# Altium schematic symbol library BulbCommander.SchLib: 28 symbols
Pins are listed as number, name and electrical type; pins without a type are passive.

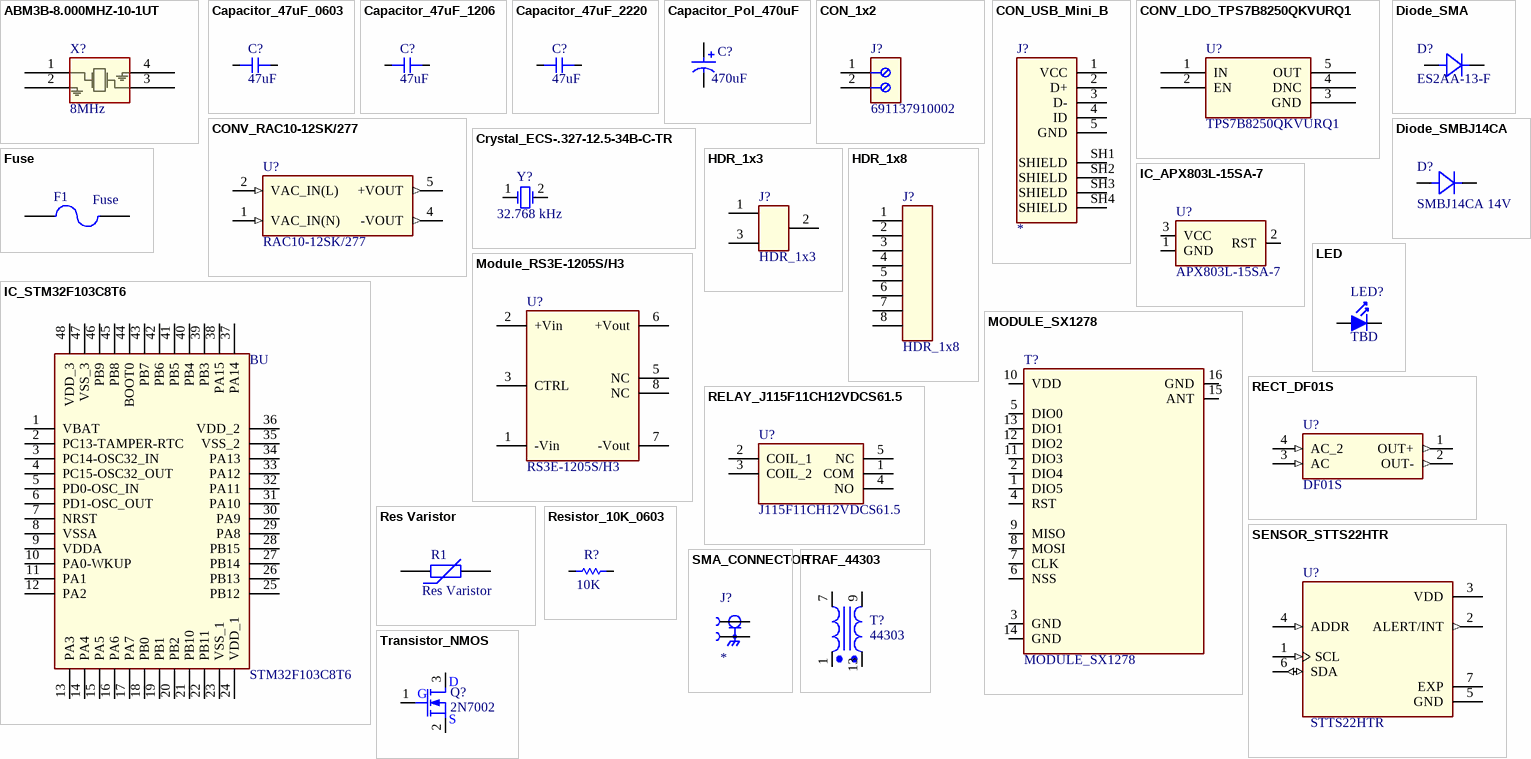
[diagram p0: symbols ABM3B-8.000MHZ-10-1UT to Transistor_NMOS]

## ABM3B-8.000MHZ-10-1UT
designator X?, comment 8MHz
8 MHz Crystal; MFR: Abracon; MFR PN: ABM3B-8.000MHZ-10-1-U-T; Datasheet: https://www.digikey.ro/en/products/detail/abracon-llc/ABM3B-8-000MHZ-10-1-U-T/1873167; Supplier: Digi-Key; Supplier PN: 535-9721-1-ND
footprint XTAL4P_ABM3B_ABR
pins: 1, 2, 3, 4

## Capacitor_47uF_0603
designator C?, comment 47uF
CAP CER 47uF 20% 35V X7R 2220; MFR: TBD; MFR PN: TBD; Supplier: TBD; Supplier PN: TBD; Datasheet: TBD
footprint CASE0603
pins: 1, 2

## Capacitor_47uF_1206
designator C?, comment 47uF
CAP CER 47uF 20% 35V X7R 2220; MFR: TBD; MFR PN: TBD; Supplier: TBD; Supplier PN: TBD; Datasheet: TBD
footprint 1206 (Chip Capacitor, 2-Leads, Body 3.2x1.6mm, IPC Medium Density)
pins: 1, 2

## Capacitor_47uF_2220
designator C?, comment 47uF
CAP CER 47uF 20% 35V X7R 2220; MFR: TBD; MFR PN: TBD; Supplier: TBD; Supplier PN: TBD; Datasheet: TBD
footprint 2220 (Chip Capacitor, 2-Leads, Body 5.7x5.0mm, IPC Medium Density)
pins: 1, 2

## Capacitor_Pol_470uF
designator C?, comment value 470uF  (hidden comment: Cap Pol1)
Capacitor_Pol_470uF; Published: 8-Jun-2000; LatestRevisionDate: 17-Jul-2002; LatestRevisionNote: Re-released for DXP Platform.; PackageReference: RB7.6-15; Publisher: Altium Limited; PackageDescription: Polarized Capacitor (Radial); 2 Leads
footprint WCAP-ASLL_D16H17 (Aluminium Electrolytic V-Chip SMT Capacitors, 16x17mm)
pins: 1, 2
1 alternate drawing of the same symbol

## CON_1x2
designator J?, comment 691137910002
TERM BLOCK 2P HORIZON 7.5MM PCB; MFR: Wurth; MFR PN: 691101710002; Datasheet: https://www.digikey.ro/en/products/detail/w%C3%BCrth-elektronik/691101710002/2060522?s=N4IgTCBcDaIGwE4CMSAMSDsbWogXQF8g; Supplier PN: 732-2026-ND; Supplier: Digi Key
footprint 691137910002 (Horizontal Cable Entry with Pressure Clamp, pitch 7.5mm, 02p)
pins: 1, 2

## CON_USB_Mini_B
designator J?
USB B mini; MFR: Same Sky; MFR PN: 102-5892-1-ND; Datasheet: https://www.digikey.ro/en/products/detail/same-sky-formerly-cui-devices/UJ2-MBH-4-SMT-TR/6188086; Supplier: DigiKey; Supplier PN: 102-5892-1-ND
footprint CUI_UJ2-MBH-4-SMT
pins: 1 VCC, 2 D+, 3 D-, 4 ID, 5 GND, SH1 SHIELD, SH2 SHIELD, SH3 SHIELD, SH4 SHIELD

## CONV_LDO_TPS7B8250QKVURQ1
designator U?, comment TPS7B8250QKVURQ1
MFR: Texas Instruments; MFR PN: TPS7B8250QKVURQ1; Supplier PN: 296-TPS7B8250QKVURQ1CT-ND; Supplier: DigiKey; Datasheet: https://www.digikey.ro/en/products/detail/texas-instruments/TPS7B8250QKVURQ1/12352207?s=N4IgTCBcDaICoAUDKB2AQgDjAVgAwEUBpANQFUAlfARhAF0BfIA
footprint SOT_QKVURQ1_TEX
pins: 1 IN, 2 EN, 3 GND (power), 4 DNC, 5 OUT

## CONV_RAC10-12SK/277
designator U?, comment RAC10-12SK/277
AC/DC CONVERTER 12V 10W; MFR: RECOM; Datasheet: https://recom-power.com/pdf/Powerline_AC-DC/RAC10-K_277.pdf; MFR PN: RAC10-12SK/277; Supplier: Digi Key; Supplier PN: 945-3122-5-ND
footprint CONV_RAC10-12SK/277
pins: 1 VAC_IN(N) (in), 2 VAC_IN(L) (in), 4 -VOUT (out), 5 +VOUT (out)

## Crystal_ECS-.327-12.5-34B-C-TR
designator Y?, comment 32.768 kHz
32.768 kHz ±10ppm Crystal 12.5pF 70 kOhms 2-SMD, No Lead; MFR PN: ECS-.327-12.5-34B-C-TR; MFR: ECS; Datasheet: https://www.digikey.ro/en/products/detail/ecs-inc/ECS-327-12-5-34B-C-TR/3927328; Supplier PN: XC1968CT-ND; Supplier: Digi Key
footprint XTAL_ECS-.327-12.5-34B-C-TR
pins: 1 OSC1, 2 OSC2

## Diode_SMA
designator D?, comment ES2AA-13-F
DIODE STANDARD 50V 2A SMA; MFR: Diodes Incoprated; MFR PN: ES2AA-13-F; SUpplier: DigiKey; Supplier PN: ES2AA-FDICT-ND; Datasheet: https://www.digikey.ro/en/products/detail/diodes-incorporated/ES2AA-13-F/765452?curr=usd&utm_campaign=buynow&utm_medium=aggregator&utm_source=octopart
footprint SMA_DIODE
pins: 1, 2

## Diode_SMBJ14CA
designator D?, comment SMBJ14CA 14V
SMBJ14CA TVS DIODE 14V; Mfr_Name: Littelfuse Inc
footprint SMBJSeries_LTF-M
pins: 1, 2

## Fuse
designator F1
Published: 8-Jun-2000; LatestRevisionDate: 17-Jul-2002; LatestRevisionNote: Re-released for DXP Platform.; PackageReference: PIN-W2/E2.8; Publisher: Altium Limited; PackageDescription: Thru-Hole; 2 Leads
footprint FUSE (Thru-Hole; 2 Leads)
pins: 1, 2

## HDR_1x3
designator J?
HDR MALE 3 x 2.54MM PCB; MFR: Wurth; MFR PN: 691210910002; Datasheet: https://www.digikey.ro/en/products/detail/w%C3%BCrth-elektronik/691210910002/10668428?s=N4IgTCBcDaIGwE4CMYkAZlqxAugXyA; Supplier PN: 732-691210910002-ND; Supplier: Digi Key
footprint Header_1x3_2.54_Male
pins: 1, 2, 3

## HDR_1x8
designator J?
HDR MALE 2.54MM PCB; MFR: Wurth; MFR PN: 691210910002; Datasheet: https://www.digikey.ro/en/products/detail/w%C3%BCrth-elektronik/691210910002/10668428?s=N4IgTCBcDaIGwE4CMYkAZlqxAugXyA; Supplier PN: 732-691210910002-ND; Supplier: Digi Key
footprint Header_1x8_2.54_Male
pins: 1, 2, 3, 4, 5, 6, 7, 8

## IC_APX803L-15SA-7
designator U?, comment APX803L-15SA-7
Supervisor Open Drain or Open Collector 1 Channel SOT-23-3; MFR: Diodes Incorporated; Datasheet: https://www.aliexpress.com/item/1005001894642323.html; MFR PN: APX803L-15SA-7; Supplier: Digi key; Supplier PN: 31-APX803L-15SA-7CT-ND
footprint SOT23-3
pins: 1 GND, 2 RST, 3 VCC

## IC_STM32F103C8T6
designator BU, comment STM32F103C8T6
IC MCU 32BIT 64KB FLASH 48LQFP; MFR: STMicroelectronics; Datasheet: https://www.st.com/resource/en/datasheet/stm32f103cb.pdf; MFR PN: STM32F103C8T6; Supplier: Digi Key; Supplier PN: 497-6063-ND
footprint QFP50P900X900X160-48N
pins: 1 VBAT, 2 PC13-TAMPER-RTC, 3 PC14-OSC32_IN, 4 PC15-OSC32_OUT, 5 PD0-OSC_IN, 6 PD1-OSC_OUT, 7 NRST, 8 VSSA, 9 VDDA, 10 PA0-WKUP, 11 PA1, 12 PA2, 13 PA3, 14 PA4, 15 PA5, 16 PA6, 17 PA7, 18 PB0, 19 PB1, 20 PB2, 21 PB10, 22 PB11, 23 VSS_1, 24 VDD_1, 25 PB12, 26 PB13, 27 PB14, 28 PB15, 29 PA8, 30 PA9, 31 PA10, 32 PA11, 33 PA12, 34 PA13, 35 VSS_2, 36 VDD_2, 37 PA14, 38 PA15, 39 PB3, 40 PB4, 41 PB5, 42 PB6, 43 PB7, 44 BOOT0, 45 PB8, 46 PB9, 47 VSS_3, 48 VDD_3

## LED
designator LED?, comment TBD
Typical INFRARED GaAs LED
footprint CASE0603
pins: 1 A, 2 K

## Module_RS3E-1205S/H3
designator U?, comment RS3E-1205S/H3
DC DC CONVERTER 9-18V IN 5V OUT 600mA 3W; MFR: Recom Power; MFR PN: RS3E-1205S/H3; Supplier: DigiKey; Supplier PN: 945-RS3E-1205S/H3-ND; Datasheet: https://www.digikey.ro/en/products/detail/recom-power/RS3E-1205S-H3/14308292?s=N4IgTCBcDaIEoGUDMBRAtARjABgKwIHoAJJEAXQF8g
footprint CONV_RAC10-12SK/277
pins: 1 -Vin, 2 +Vin, 3 CTRL, 5 NC, 6 +Vout, 7 -Vout, 8 NC

## MODULE_SX1278
designator T?
MODULE_SX1278 LORA 433 MHz; Datasheet: https://www.aliexpress.com/item/1005001894642323.html; MFR: LORA; MFR PN: LORA; Supplier: LORA; Supplier PN: LORA
footprint LORA SX1278
pins: 1 DIO5, 2 DIO4, 3 GND, 4 RST, 5 DIO0, 6 NSS, 7 CLK, 8 MOSI, 9 MISO, 10 VDD, 11 DIO3, 12 DIO2, 13 DIO1, 14 GND, 15 ANT, 16 GND

## RECT_DF01S
designator U?, comment DF01S
BRIDGE RECT 1P 100V 1.5A 4-SDIP; MFR: onsemi; Datasheet: https://www.onsemi.com/download/data-sheet/pdf/df10s-d.pdf; MFR PN: DF01S; Supplier: Digi Key; Supplier PN: DF01SCT-ND
footprint SOT508P985X260-4N
pins: 1 OUT+ (out), 2 OUT- (out), 3 AC (in), 4 AC_2 (in)

## RELAY_J115F11CH12VDCS61.5
designator U?, comment J115F11CH12VDCS61.5
RELAY GEN PURPOSE SPDT 50A 12V; MFR: CIT Relay and Switch; Datasheet: https://www.citrelay.com/Catalog%20Pages/RelayCatalog/J115F%2050amp.pdf; MFR PN: J115F11CH12VDCS61.5; Supplier: Digi Key; Supplier PN: J115F11CH12VDCS61.2449-J115F11CH12VDCS61.5-ND5U
footprint J115F11CH12VDCS615U
pins: 1 COM, 2 COIL_1, 3 COIL_2, 4 NO, 5 NC

## Res Varistor
designator R1
Varistor (Voltage-Sensitive Resistor); Published: 24-Mar-1999; LatestRevisionDate: 29-May-2009; LatestRevisionNote: IPC-7351 Footprint Added.; PackageVersion: Mar-2003; PackageReference: 6-0805; Publisher: Altium Limited; PackageDescription: Chip Resistor 0805 Case Size; Code_IPC: RESC2012
footprint AXIAL-0.3 (Axial Device, Thru-Hole; 2 Leads; 0.3 in Pin Spacing)
pins: 1, 2

## Resistor_10K_0603
designator R?, comment 10K
RES 10K 1% 1/10W 0603; MFR: YAGEO; MFR PN: RC0603FR-0710KL; Supplier: Mouser; Supplier PN: 603-RC0603FR-0710KL; Datasheet: https://eu.mouser.com/ProductDetail/YAGEO/RC0603FR-0710KL?qs=grNVn54RoB%252B3GtjbJj3wJQ%3D%3D
footprint CASE0603
pins: 1, 2

## SENSOR_STTS22HTR
designator U?, comment STTS22HTR
Low-voltage, ultralow-power, 0.5°C accuracy I²C/SMBus 3.0 temperature sensor; MFR: STMicroelectronics; MFR PN: STTS22HTR; Supplier PN: 497-STTS22HCT-ND; Supplier: Digi-Key; Datasheet: https://www.digikey.com/en/products/detail/stmicroelectronics/STTS22HTR/10668399
footprint Sensor_6-UDFN
pins: 1 SCL (in), 2 ALERT/INT (out), 3 VDD (power), 4 ADDR (in), 5 GND (power), 6 SDA (io), 7 EXP

## SMA_CONNECTOR
designator J?
Straight SMA Connector; MP: altium_native_batch; Value: *; Package: None; Availability: Unavailable; Price: None
footprint LPRS_SMA_CONNECTOR
pins: 1, G1 2, G2 2, G3 2, G4 2

## TRAF_44303
designator T?, comment 44303
PCB Transformer, EI 54 x 18.8, Encapsulated Safety Isolating, 230V, 12V, 16 VA, 50Hz / 60Hz; MFR: MYRRA; Datasheet: https://ro.farnell.com/myrra/44303/transformer-16va-12v/dp/1689094; MFR PN: 44303; Supplier: Farnel; Supplier PN: 1689094
footprint TRAF_44303
pins: 1 PRI1, 7 PRI1, 9 PRI1, 13 SEC

## Transistor_NMOS
designator Q?, comment 2N7002
MOSFET N-CH 60V 280MA SOT23-3; MFR: Microchip; MFR PN: 2N7002-G; Supplier: 689-2N7002-G; Supplier PN: 689-2N7002-G; Datasheetr: https://eu.mouser.com/ProductDetail/Microchip-Technology/2N7002-G?qs=D%2FHwGy7fPj%2F0m3YgJ%252BOEvg%3D%3D&gad_source=1&gclid=CjwKCAiA-vOsBhAAEiwAIWR0TUe7q_QostOicZHu1AHXgQXTk64doIjIByY-NhPhM9vjgvrvT5qG4BoC-HkQAvD_BwE&_gl=1*1hvi63b*_ga*MjAyNjQwOTA4MS4xNzA0NjI4Mjkx*_ga_15W4STQT4T*MTcwNDgyMjg3Ni4yLjEuMTcwNDgyMjg3Ni42MC4wLjA.
footprint SOT23-3
pins: 1 G, 2 S, 3 D